# Altium footprint library PcbLib1.PcbLib: 218 footprints (part 10 of 14)
Each footprint in its own frame and in the unit in brackets; x right, y up, seen from the top. Pads: shape width x height; smd on the part's side, far side on the other; paste and mask are expansions set on the pad; w line width, h text height; cw(c..) or ccw(c..) is an arc to the next point about the centre after c.
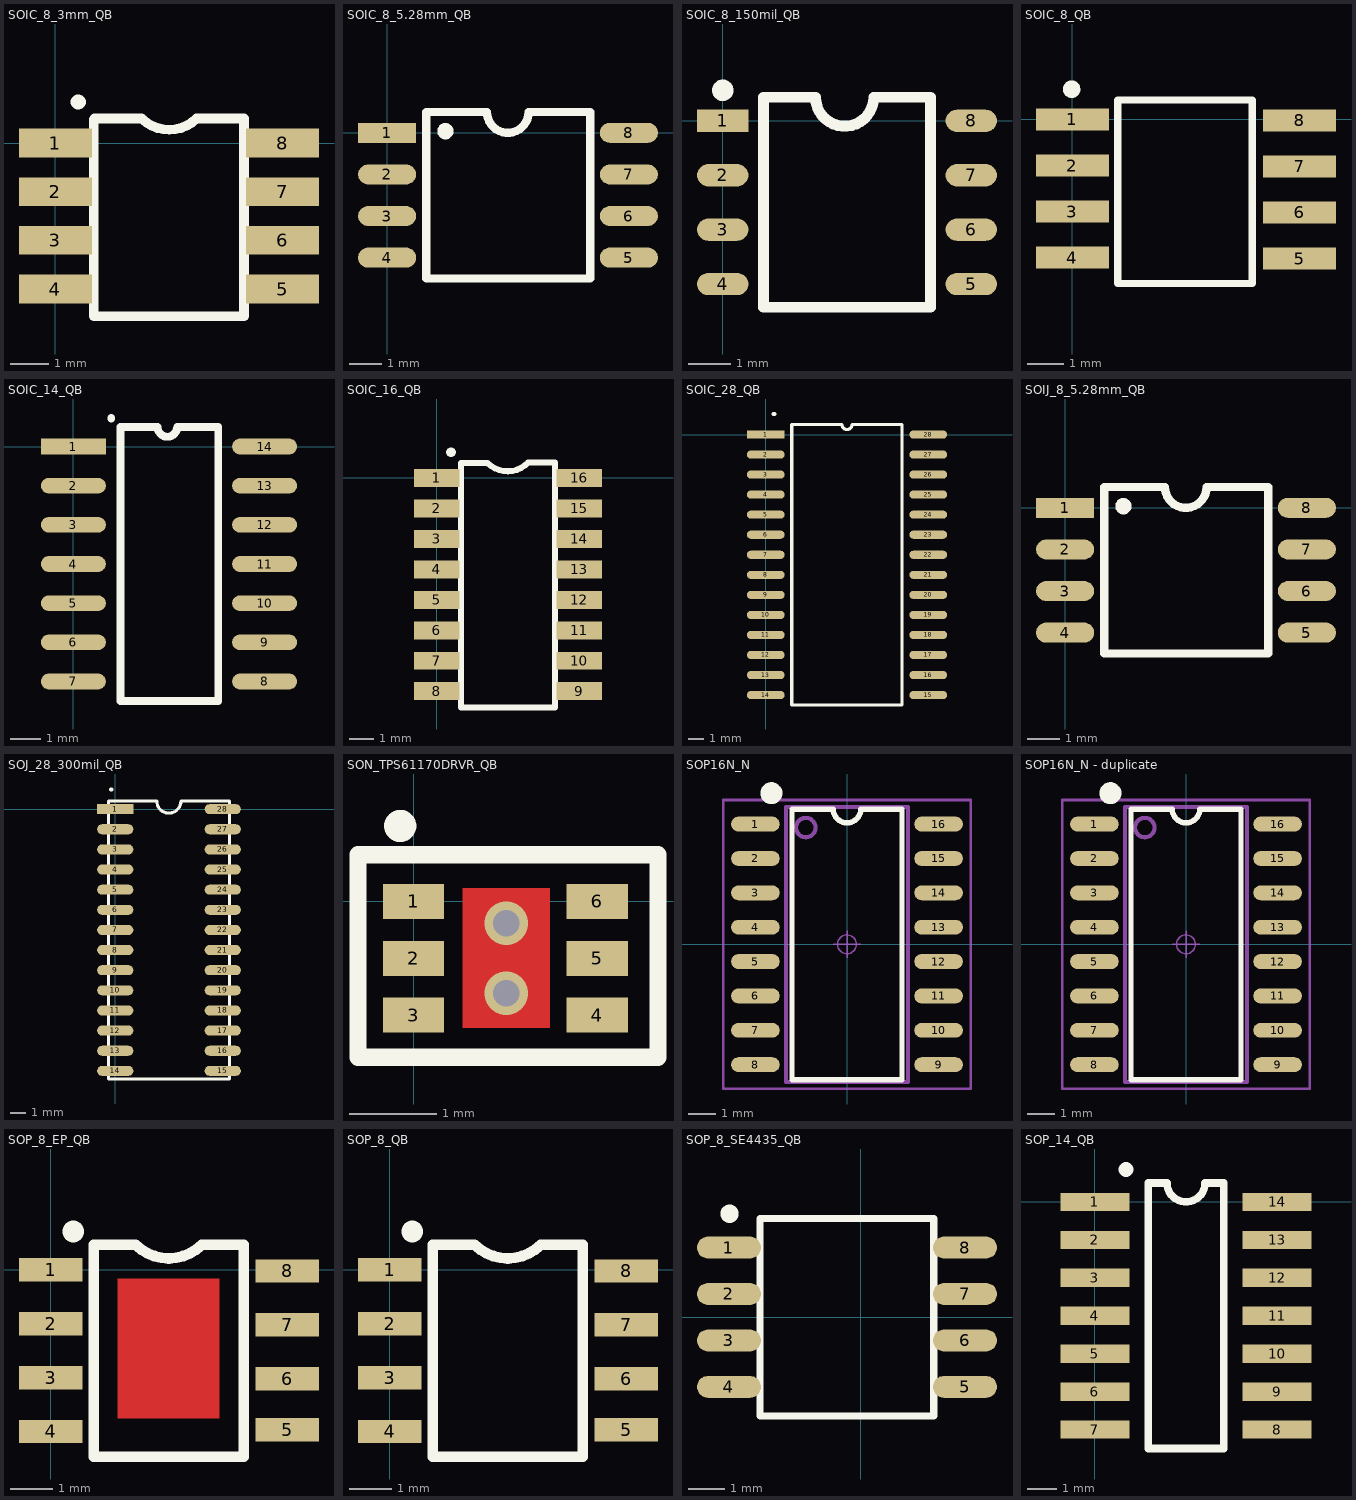
[diagram p9: the footprints below, top view; thin cyan lines are the x and y axes]

## SOIC_8_3mm_QB [mm]
height 3.63
pads (8):
  rect 1.9x0.75 smd: 1(0,0) 2(0,-1.27) 3(0,-2.54) 4(0,-3.81) 5(5.93,-3.81) 6(5.93,-2.54) 7(5.93,-1.27) 8(5.93,0)
Top Overlay:
  lines w0.254: 1,0.62 1,-4.52 4.92,-4.52 4.92,0.64 3.683,0.64 cw(c2.97,1.353) 2.257,0.64 1.02,0.64
  lines w0.4: 0.59,1.07 0.6,1.07
3D body: height 0.25, standoff 0, extent 5.26,-4.13 5.91,-3.53
3D body: height 1.2, standoff 0, extent 5.26,-4.13 5.51,-3.53
3D body: height 1.45, standoff 1.19, extent 5.01,-4.13 5.51,-3.53
3D body: height 0.25, standoff 0, extent 5.26,-2.84 5.91,-2.24
3D body: height 1.2, standoff 0, extent 5.26,-2.84 5.51,-2.24
3D body: height 1.45, standoff 1.19, extent 5.01,-2.84 5.51,-2.24
3D body: height 0.25, standoff 0, extent 5.26,-1.56 5.91,-0.96
3D body: height 1.2, standoff 0, extent 5.26,-1.56 5.51,-0.96
3D body: height 1.45, standoff 1.19, extent 5.01,-1.56 5.51,-0.96
3D body: height 0.25, standoff 0, extent 5.26,-0.28 5.91,0.32
3D body: height 1.2, standoff 0, extent 5.26,-0.28 5.51,0.32
3D body: height 1.45, standoff 1.19, extent 5.01,-0.28 5.51,0.32
3D body: height 3.5, standoff 0.1, extent 1,-4.52 4.92,0.64
3D body: height 1.45, standoff 1.19, extent 0.44,-0.29 0.94,0.31
3D body: height 1.2, standoff 0, extent 0.44,-0.29 0.69,0.31
3D body: height 0.25, standoff 0, extent 0.04,-0.29 0.69,0.31
3D body: height 1.45, standoff 1.19, extent 0.44,-1.56 0.94,-0.96
3D body: height 1.2, standoff 0, extent 0.44,-1.56 0.69,-0.96
3D body: height 0.25, standoff 0, extent 0.04,-1.56 0.69,-0.96
3D body: height 1.45, standoff 1.19, extent 0.44,-2.86 0.94,-2.26
3D body: height 1.2, standoff 0, extent 0.44,-2.86 0.69,-2.26
3D body: height 0.25, standoff 0, extent 0.04,-2.86 0.69,-2.26
3D body: height 1.45, standoff 1.19, extent 0.44,-4.13 0.94,-3.53
3D body: height 1.2, standoff 0, extent 0.44,-4.13 0.69,-3.53
3D body: height 0.25, standoff 0, extent 0.04,-4.13 0.69,-3.53

## SOIC_8_5.28mm_QB [mil]
pads (8):
  rect 70x24 smd: 1(0,0)
  oval 70x24 smd: 2(0,-50) 3(0,-100) 4(0,-150) 5(290.55,-150) 6(290.55,-100) 7(290.55,-50) 8(290.55,0)
Top Overlay:
  circle w9.84: c70.08,2 r4.92
  lines w10: 46.85,-175 46.85,25 120,25 ccw(c145,25) 170,25 244,25 244,-175 46.85,-175
3D body: height 70.87, standoff 0, extent 46.85,-175 244,25
3D body: height 31.5, standoff 0, extent -5,-8 47,9
3D body: height 31.5, standoff 0, extent -5,-58.5 47,-41.5
3D body: height 31.5, standoff 0, extent -5,-108 47,-91
3D body: height 31.5, standoff 0, extent -5,-159 47,-142
3D body: height 31.5, standoff 0, extent 243,-159 295,-142
3D body: height 31.5, standoff 0, extent 243,-108.5 295,-91.5
3D body: height 31.5, standoff 0, extent 243,-59 295,-42
3D body: height 31.5, standoff 0, extent 243,-9 295,8

## SOIC_8_150mil_QB [mm]
pads (8):
  rect 1.2x0.52 smd: 1(0,0)
  oval 1.2x0.52 smd: 2(0,-1.27) 3(0,-2.54) 4(0,-3.81) 5(5.8,-3.81) 6(5.8,-2.54) 7(5.8,-1.27) 8(5.8,0)
Top Overlay:
  circle w0.25: c0.002,0.711 r0.125
  lines w0.254: 0.95,-4.35 4.85,-4.35 4.85,0.55 3.523,0.55 cw(c2.845,0.55) 2.168,0.55 0.95,0.55 0.95,-4.35
3D body: height 1.55, standoff 0, extent 1,-4.3 4.825,0.5
3D body: height 0.8, standoff 0, extent -0.15,-0.2 1,0.2
3D body: height 0.8, standoff 0, extent -0.152,-1.47 0.998,-1.07
3D body: height 0.8, standoff 0, extent -0.143,-2.737 1.007,-2.337
3D body: height 0.8, standoff 0, extent -0.152,-4.01 0.998,-3.61
3D body: height 0.8, standoff 0, extent 4.819,-0.2 5.969,0.2
3D body: height 0.8, standoff 0, extent 4.819,-1.47 5.969,-1.07
3D body: height 0.8, standoff 0, extent 4.819,-2.74 5.969,-2.34
3D body: height 0.8, standoff 0, extent 4.819,-4.01 5.969,-3.61

## SOIC_8_QB [mm]
pads (8):
  rect 2x0.6 smd: 1(0,0) 2(0,-1.262) 3(0,-2.523) 4(0,-3.785) 5(6.223,-3.81) 6(6.223,-2.548) 7(6.223,-1.287) 8(6.223,-0.025)
Top Overlay:
  lines w0.2: 1.245,-4.496 1.245,0.533 4.928,0.533 4.928,-4.496 1.245,-4.496
  lines w0.254: 0.076,0.889 ccw(c-0.021,0.831) 0.092,0.831
3D body: height 1.75, standoff 0.1, extent 1.206,-4.496 4.928,0.533
3D body: height 0.75, standoff 0, extent 0.025,-0.254 1.245,0.254
3D body: height 0.75, standoff 0, extent 0.025,-1.524 1.245,-1.016
3D body: height 0.75, standoff 0, extent 0.025,-2.769 1.245,-2.261
3D body: height 0.75, standoff 0, extent 0.025,-4.039 1.245,-3.531
3D body: height 0.75, standoff 0, extent 4.902,-4.064 6.121,-3.556
3D body: height 0.75, standoff 0, extent 4.902,-2.794 6.121,-2.286
3D body: height 0.75, standoff 0, extent 4.902,-1.549 6.121,-1.041
3D body: height 0.75, standoff 0, extent 4.902,-0.279 6.121,0.229

## SOIC_14_QB [mil]
pads (14):
  rect 83x20 smd: 1(0,0)
  oval 83x20 smd: 2(0,-50) 3(0,-100) 4(0,-150) 5(0,-200) 6(0,-250) 7(0,-300) 8(244.09,-300) 9(244.09,-250) 10(244.09,-200) 11(244.09,-150) 12(244.09,-100) 13(244.09,-50) 14(244.09,0)
Top Overlay:
  lines w10: 48.23,35.43 48.23,36.42 ; 60,-325 185,-325 185,25 132.5,25 cw(c120,25) 107.5,25 60,25 60,-325
3D body: height 68.9, standoff 7.87, extent 50,-320 195,20
3D body: height 49.21, standoff 39.37, extent 25,-60 50,-40
3D body: height 39.37, standoff 0, extent 25,-60 35,-40
3D body: height 9.84, standoff 0, extent -14.99,-60 35,-40
3D body: height 49.21, standoff 39.37, extent 25,-110 50,-90
3D body: height 39.37, standoff 0, extent 25,-110 35,-90
3D body: height 9.84, standoff 0, extent -14.99,-110 35,-90
3D body: height 49.21, standoff 39.37, extent 25,-160 50,-140
3D body: height 39.37, standoff 0, extent 25,-160 35,-140
3D body: height 9.84, standoff 0, extent -14.99,-160 35,-140
3D body: height 49.21, standoff 39.37, extent 25,-210 50,-190
3D body: height 39.37, standoff 0, extent 25,-210 35,-190
3D body: height 9.84, standoff 0, extent -14.99,-210 35,-190
3D body: height 49.21, standoff 39.37, extent 25,-260 50,-240
3D body: height 39.37, standoff 0, extent 25,-260 35,-240
3D body: height 9.84, standoff 0, extent -14.99,-260 35,-240
3D body: height 49.21, standoff 39.37, extent 25,-310 50,-290
3D body: height 39.37, standoff 0, extent 25,-310 35,-290
3D body: height 9.84, standoff 0, extent -14.99,-310 35,-290
3D body: height 49.21, standoff 39.37, extent 195,-310 220,-290
3D body: height 39.37, standoff 0, extent 210,-310 220,-290
3D body: height 9.84, standoff 0, extent 210,-310 259.99,-290
3D body: height 49.21, standoff 39.37, extent 195,-260 220,-240
3D body: height 39.37, standoff 0, extent 210,-260 220,-240
3D body: height 9.84, standoff 0, extent 210,-260 259.99,-240
3D body: height 49.21, standoff 39.37, extent 195,-210 220,-190
3D body: height 39.37, standoff 0, extent 210,-210 220,-190
3D body: height 9.84, standoff 0, extent 210,-210 259.99,-190
3D body: height 49.21, standoff 39.37, extent 195,-160 220,-140
3D body: height 39.37, standoff 0, extent 210,-160 220,-140
3D body: height 9.84, standoff 0, extent 210,-160 259.99,-140
3D body: height 49.21, standoff 39.37, extent 195,-110 220,-90
3D body: height 39.37, standoff 0, extent 210,-110 220,-90
3D body: height 9.84, standoff 0, extent 210,-110 259.99,-90
3D body: height 49.21, standoff 39.37, extent 195,-60 220,-40
3D body: height 39.37, standoff 0, extent 210,-60 220,-40
3D body: height 9.84, standoff 0, extent 210,-60 259.99,-40
3D body: height 49.21, standoff 39.37, extent 195,-10 220,10
3D body: height 39.37, standoff 0, extent 210,-10 220,10
3D body: height 9.84, standoff 0, extent 210,-10 259.99,10
3D body: height 49.21, standoff 39.37, extent 25,-10 50,10
3D body: height 39.37, standoff 0, extent 25,-10 35,10
3D body: height 9.84, standoff 0, extent -14.99,-10 35,10

## SOIC_16_QB [mm]
height 1.75
pads (16):
  rect 1.9x0.75 smd: 1(0,0) 2(0,-1.27) 3(0,-2.54) 4(0,-3.81) 5(0,-5.08) 6(0,-6.35) 7(0,-7.62) 8(0,-8.89) 9(5.93,-8.89) 10(5.93,-7.62) 11(5.93,-6.35) 12(5.93,-5.08) 13(5.93,-3.81) 14(5.93,-2.54) 15(5.93,-1.27) 16(5.93,0)
Top Overlay:
  lines w0.254: 1,-9.571 4.92,-9.571 4.92,0.64 3.804,0.64 cw(c2.95,1.474) 2.116,0.62 1,0.62 1,-9.571
  lines w0.4: 0.59,1.07 0.6,1.07
3D body: height 0.95, standoff 0.74, extent 4.92,-2.83 5.42,-2.23
3D body: height 0.74, standoff 0, extent 5.17,-2.83 5.42,-2.23
3D body: height 0.25, standoff 0, extent 5.17,-2.83 5.82,-2.23
3D body: height 0.95, standoff 0.74, extent 4.92,-1.59 5.42,-0.99
3D body: height 0.74, standoff 0, extent 5.17,-1.59 5.42,-0.99
3D body: height 0.25, standoff 0, extent 5.17,-1.59 5.82,-0.99
3D body: height 0.95, standoff 0.74, extent 4.92,-0.29 5.42,0.31
3D body: height 0.74, standoff 0, extent 5.17,-0.29 5.42,0.31
3D body: height 0.25, standoff 0, extent 5.17,-0.29 5.82,0.31
3D body: height 0.95, standoff 0.74, extent 0.49,-2.82 0.99,-2.22
3D body: height 0.75, standoff 0, extent 0.49,-2.82 0.74,-2.22
3D body: height 0.25, standoff 0, extent 0.09,-2.82 0.74,-2.22
3D body: height 0.95, standoff 0.74, extent 0.49,-1.56 0.99,-0.96
3D body: height 0.75, standoff 0, extent 0.49,-1.56 0.74,-0.96
3D body: height 0.25, standoff 0, extent 0.09,-1.56 0.74,-0.96
3D body: height 0.95, standoff 0.74, extent 0.49,-0.29 0.99,0.31
3D body: height 0.75, standoff 0, extent 0.49,-0.29 0.74,0.31
3D body: height 0.25, standoff 0, extent 0.09,-0.29 0.74,0.31
3D body: height 1.75, standoff 0.1, extent 1,-9.571 4.92,0.64
3D body: height 0.95, standoff 0.74, extent 0.491,-4.091 0.991,-3.491
3D body: height 0.75, standoff 0, extent 0.491,-4.091 0.741,-3.491
3D body: height 0.25, standoff 0, extent 0.091,-4.091 0.741,-3.491
3D body: height 0.25, standoff 0, extent 5.17,-5.4 5.82,-4.8
3D body: height 0.74, standoff 0, extent 5.17,-5.4 5.42,-4.8
3D body: height 0.95, standoff 0.74, extent 4.92,-5.4 5.42,-4.8
3D body: height 0.25, standoff 0, extent 5.17,-6.64 5.82,-6.04
3D body: height 0.74, standoff 0, extent 5.17,-6.64 5.42,-6.04
3D body: height 0.95, standoff 0.74, extent 4.92,-6.64 5.42,-6.04
3D body: height 0.25, standoff 0, extent 5.17,-7.96 5.82,-7.36
3D body: height 0.74, standoff 0, extent 5.17,-7.96 5.42,-7.36
3D body: height 0.95, standoff 0.74, extent 4.92,-7.96 5.42,-7.36
3D body: height 0.25, standoff 0, extent 5.17,-7.91 5.82,-7.31
3D body: height 0.74, standoff 0, extent 5.17,-7.91 5.42,-7.31
3D body: height 0.95, standoff 0.74, extent 4.92,-7.91 5.42,-7.31
3D body: height 0.25, standoff 0, extent 5.17,-9.21 5.82,-8.61
3D body: height 0.74, standoff 0, extent 5.17,-9.21 5.42,-8.61
3D body: height 0.95, standoff 0.74, extent 4.92,-9.21 5.42,-8.61
3D body: height 0.25, standoff 0, extent 5.159,-4.142 5.809,-3.542
3D body: height 0.74, standoff 0, extent 5.159,-4.142 5.409,-3.542
3D body: height 0.95, standoff 0.74, extent 4.909,-4.142 5.409,-3.542
3D body: height 0.25, standoff 0, extent 0.091,-9.171 0.741,-8.571
3D body: height 0.75, standoff 0, extent 0.491,-9.171 0.741,-8.571
3D body: height 0.95, standoff 0.74, extent 0.491,-9.171 0.991,-8.571
3D body: height 0.25, standoff 0, extent 0.09,-5.37 0.74,-4.77
3D body: height 0.75, standoff 0, extent 0.49,-5.37 0.74,-4.77
3D body: height 0.95, standoff 0.74, extent 0.49,-5.37 0.99,-4.77
3D body: height 0.25, standoff 0, extent 0.09,-6.64 0.74,-6.04
3D body: height 0.75, standoff 0, extent 0.49,-6.64 0.74,-6.04
3D body: height 0.95, standoff 0.74, extent 0.49,-6.64 0.99,-6.04
3D body: height 0.25, standoff 0, extent 0.09,-7.9 0.74,-7.3
3D body: height 0.75, standoff 0, extent 0.49,-7.9 0.74,-7.3
3D body: height 0.95, standoff 0.74, extent 0.49,-7.9 0.99,-7.3

## SOIC_28_QB [mm]
pads (28):
  rect 2.4x0.51 smd: 1(0,0)
  oval 2.4x0.51 smd: 2(0,-1.27) 3(0,-2.54) 4(0,-3.81) 5(0,-5.08) 6(0,-6.35) 7(0,-7.62) 8(0,-8.89) 9(0,-10.16) 10(0,-11.43) 11(0,-12.7) 12(0,-13.97) 13(0,-15.24) 14(0,-16.51) 15(10.3,-16.51) 16(10.3,-15.24) 17(10.3,-13.97) 18(10.3,-12.7) 19(10.3,-11.43) 20(10.3,-10.16) 21(10.3,-8.89) 22(10.3,-7.62) 23(10.3,-6.35) 24(10.3,-5.08) 25(10.3,-3.81) 26(10.3,-2.54) 27(10.3,-1.27) 28(10.3,0)
Top Overlay:
  lines w0.2: 1.651,-17.145 8.636,-17.145 8.636,0.635 5.467,0.635 cw(c5.15,0.635) 4.832,0.635 1.651,0.635 1.651,-17.145
  lines w0.254: 0.5,1.3 0.55,1.3
3D body: height 2.65, standoff 0.2, extent 1.404,-17.208 8.897,0.699
3D body: height 0.28, standoff 0, extent -0.254,-0.254 1.016,0.254
3D body: height 2, standoff 0, extent 0.762,-0.254 1.016,0.254
3D body: height 2.28, standoff 2, extent 0.762,-0.254 1.651,0.254
3D body: height 0.28, standoff 0, extent -0.254,-1.524 1.016,-1.016
3D body: height 2, standoff 0, extent 0.762,-1.524 1.016,-1.016
3D body: height 2.28, standoff 2, extent 0.762,-1.524 1.651,-1.016
3D body: height 0.28, standoff 0, extent -0.254,-2.794 1.016,-2.286
3D body: height 2, standoff 0, extent 0.762,-2.794 1.016,-2.286
3D body: height 2.28, standoff 2, extent 0.762,-2.794 1.651,-2.286
3D body: height 0.28, standoff 0, extent -0.254,-4.064 1.016,-3.556
3D body: height 2, standoff 0, extent 0.762,-4.064 1.016,-3.556
3D body: height 2.28, standoff 2, extent 0.762,-4.064 1.651,-3.556
3D body: height 0.28, standoff 0, extent -0.254,-5.334 1.016,-4.826
3D body: height 2, standoff 0, extent 0.762,-5.334 1.016,-4.826
3D body: height 2.28, standoff 2, extent 0.762,-5.334 1.651,-4.826
3D body: height 0.28, standoff 0, extent -0.254,-6.604 1.016,-6.096
3D body: height 2, standoff 0, extent 0.762,-6.604 1.016,-6.096
3D body: height 2.28, standoff 2, extent 0.762,-6.604 1.651,-6.096
3D body: height 0.28, standoff 0, extent -0.254,-7.874 1.016,-7.366
3D body: height 2, standoff 0, extent 0.762,-7.874 1.016,-7.366
3D body: height 2.28, standoff 2, extent 0.762,-7.874 1.651,-7.366
3D body: height 0.28, standoff 0, extent -0.254,-9.144 1.016,-8.636
3D body: height 2, standoff 0, extent 0.762,-9.144 1.016,-8.636
3D body: height 2.28, standoff 2, extent 0.762,-9.144 1.651,-8.636
3D body: height 0.28, standoff 0, extent -0.254,-10.414 1.016,-9.906
3D body: height 2, standoff 0, extent 0.762,-10.414 1.016,-9.906
3D body: height 2.28, standoff 2, extent 0.762,-10.414 1.651,-9.906
3D body: height 0.28, standoff 0, extent -0.254,-11.684 1.016,-11.176
3D body: height 2, standoff 0, extent 0.762,-11.684 1.016,-11.176
3D body: height 2.28, standoff 2, extent 0.762,-11.684 1.651,-11.176
3D body: height 0.28, standoff 0, extent -0.254,-12.954 1.016,-12.446
3D body: height 2, standoff 0, extent 0.762,-12.954 1.016,-12.446
3D body: height 2.28, standoff 2, extent 0.762,-12.954 1.651,-12.446
3D body: height 0.28, standoff 0, extent -0.254,-14.224 1.016,-13.716
3D body: height 2, standoff 0, extent 0.762,-14.224 1.016,-13.716
3D body: height 2.28, standoff 2, extent 0.762,-14.224 1.651,-13.716
3D body: height 0.28, standoff 0, extent -0.254,-15.494 1.016,-14.986
3D body: height 2, standoff 0, extent 0.762,-15.494 1.016,-14.986
3D body: height 2.28, standoff 2, extent 0.762,-15.494 1.651,-14.986
3D body: height 0.28, standoff 0, extent -0.254,-16.764 1.016,-16.256
3D body: height 2, standoff 0, extent 0.762,-16.764 1.016,-16.256
3D body: height 2.28, standoff 2, extent 0.762,-16.764 1.651,-16.256
3D body: height 0.28, standoff 0, extent 9.271,-16.764 10.541,-16.256
3D body: height 2, standoff 0, extent 9.271,-16.764 9.525,-16.256
3D body: height 2.28, standoff 2, extent 8.636,-16.764 9.525,-16.256
3D body: height 0.28, standoff 0, extent 9.271,-15.494 10.541,-14.986
3D body: height 2, standoff 0, extent 9.271,-15.494 9.525,-14.986
3D body: height 2.28, standoff 2, extent 8.636,-15.494 9.525,-14.986
3D body: height 0.28, standoff 0, extent 9.271,-14.224 10.541,-13.716
3D body: height 2, standoff 0, extent 9.271,-14.224 9.525,-13.716
3D body: height 2.28, standoff 2, extent 8.636,-14.224 9.525,-13.716
3D body: height 0.28, standoff 0, extent 9.271,-0.254 10.541,0.254
3D body: height 2, standoff 0, extent 9.271,-0.254 9.525,0.254
3D body: height 2.28, standoff 2, extent 8.636,-0.254 9.525,0.254
3D body: height 0.28, standoff 0, extent 9.271,-1.524 10.541,-1.016
3D body: height 2, standoff 0, extent 9.271,-1.524 9.525,-1.016
3D body: height 2.28, standoff 2, extent 8.636,-1.524 9.525,-1.016
3D body: height 0.28, standoff 0, extent 9.271,-4.064 10.541,-3.556
3D body: height 2, standoff 0, extent 9.271,-4.064 9.525,-3.556
3D body: height 2.28, standoff 2, extent 8.636,-4.064 9.525,-3.556
3D body: height 0.28, standoff 0, extent 9.271,-5.334 10.541,-4.826
3D body: height 2, standoff 0, extent 9.271,-5.334 9.525,-4.826
3D body: height 2.28, standoff 2, extent 8.636,-5.334 9.525,-4.826
3D body: height 0.28, standoff 0, extent 9.271,-6.604 10.541,-6.096
3D body: height 2, standoff 0, extent 9.271,-6.604 9.525,-6.096
3D body: height 2.28, standoff 2, extent 8.636,-6.604 9.525,-6.096
3D body: height 0.28, standoff 0, extent 9.271,-7.874 10.541,-7.366
3D body: height 2, standoff 0, extent 9.271,-7.874 9.525,-7.366
3D body: height 2.28, standoff 2, extent 8.636,-7.874 9.525,-7.366
3D body: height 0.28, standoff 0, extent 9.144,-10.414 10.414,-9.906
3D body: height 2, standoff 0, extent 9.144,-10.414 9.398,-9.906
3D body: height 2.28, standoff 2, extent 8.509,-10.414 9.398,-9.906
3D body: height 0.28, standoff 0, extent 9.271,-11.684 10.541,-11.176
3D body: height 2, standoff 0, extent 9.271,-11.684 9.525,-11.176
3D body: height 2.28, standoff 2, extent 8.636,-11.684 9.525,-11.176
3D body: height 0.28, standoff 0, extent 9.271,-12.954 10.541,-12.446
3D body: height 2, standoff 0, extent 9.271,-12.954 9.525,-12.446
3D body: height 2.28, standoff 2, extent 8.636,-12.954 9.525,-12.446
3D body: height 2.28, standoff 2, extent 8.636,-9.144 9.525,-8.636
3D body: height 2, standoff 0, extent 9.271,-9.144 9.525,-8.636
3D body: height 0.28, standoff 0, extent 9.271,-9.144 10.541,-8.636
3D body: height 2.28, standoff 2, extent 8.636,-2.794 9.525,-2.286
3D body: height 2, standoff 0, extent 9.271,-2.794 9.525,-2.286
3D body: height 0.28, standoff 0, extent 9.271,-2.794 10.541,-2.286

## SOIJ_8_5.28mm_QB [mil]
pads (8):
  rect 70x24 smd: 1(0,0)
  oval 70x24 smd: 2(0,-50) 3(0,-100) 4(0,-150) 5(290.55,-150) 6(290.55,-100) 7(290.55,-50) 8(290.55,0)
Top Overlay:
  circle w9.84: c70.08,2 r4.92
  lines w10: 46.85,-175 46.85,25 120,25 ccw(c145,25) 170,25 244,25 244,-175 46.85,-175
3D body: height 70.87, standoff 0, extent 46.85,-175 244,25
3D body: height 31.5, standoff 0, extent -5,-8 47,9
3D body: height 31.5, standoff 0, extent -5,-58.5 47,-41.5
3D body: height 31.5, standoff 0, extent -5,-108 47,-91
3D body: height 31.5, standoff 0, extent -5,-159 47,-142
3D body: height 31.5, standoff 0, extent 243,-159 295,-142
3D body: height 31.5, standoff 0, extent 243,-108.5 295,-91.5
3D body: height 31.5, standoff 0, extent 243,-59 295,-42
3D body: height 31.5, standoff 0, extent 243,-9 295,8

## SOJ_28_300mil_QB [mil]
pads (28):
  rect 90x25 smd: 1(0,0)
  oval 90x25 smd: 2(0,-50) 3(0,-100) 4(0,-150) 5(0,-200) 6(0,-250) 7(0,-300) 8(0,-350) 9(0,-400) 10(0,-450) 11(0,-500) 12(0,-550) 13(0,-600) 14(0,-650) 15(267,-650) 16(267,-600) 17(267,-550) 18(267,-500) 19(267,-450) 20(267,-400) 21(267,-350) 22(267,-300) 23(267,-250) 24(267,-200) 25(267,-150) 26(267,-100) 27(267,-50) 28(267,0)
Top Overlay:
  lines w7.87: 103,19.96 -16.5,19.96 -16.5,-669.96 283.5,-669.96 283.5,19.96 163,19.96 ; 103,20 ccw(c133,20) 163,20
  lines w10: -10.83,48.23 -9.84,48.23
3D body: height 35, standoff 0, extent 225,-10 305,10
3D body: height 35, standoff 0, extent 225,-60 305,-40
3D body: height 35, standoff 0, extent 225,-110 305,-90
3D body: height 35, standoff 0, extent 225,-160 305,-140
3D body: height 35, standoff 0, extent 225,-210 305,-190
3D body: height 35, standoff 0, extent 225,-260 305,-240
3D body: height 35, standoff 0, extent 225,-310 305,-290
3D body: height 35, standoff 0, extent 225,-360 305,-340
3D body: height 35, standoff 0, extent 225,-410 305,-390
3D body: height 35, standoff 0, extent 225,-460 305,-440
3D body: height 35, standoff 0, extent 225,-510 305,-490
3D body: height 35, standoff 0, extent 225,-560 305,-540
3D body: height 35, standoff 0, extent 225,-610 305,-590
3D body: height 35, standoff 0, extent 225,-659 305,-639
3D body: height 35, standoff 0, extent -41,-661 39,-641
3D body: height 35, standoff 0, extent -40,-610 40,-590
3D body: height 35, standoff 0, extent -40,-560 40,-540
3D body: height 35, standoff 0, extent -40,-510 40,-490
3D body: height 35, standoff 0, extent -40,-460 40,-440
3D body: height 35, standoff 0, extent -40,-410 40,-390
3D body: height 35, standoff 0, extent -40,-360 40,-340
3D body: height 35, standoff 0, extent -40,-310 40,-290
3D body: height 35, standoff 0, extent -40,-261 40,-241
3D body: height 35, standoff 0, extent -40,-210 40,-190
3D body: height 35, standoff 0, extent -40,-160 40,-140
3D body: height 35, standoff 0, extent -40,-110 40,-90
3D body: height 35, standoff 0, extent -40,-60 40,-40
3D body: height 85, standoff 35, extent -40,-10 -16,10
3D body: height 35, standoff 0, extent -40,-10 40,10
3D body: height 140, standoff 35, extent -16.5,-669.96 283.5,19.96
3D body: height 85, standoff 35, extent -40,-60 -16,-40
3D body: height 85, standoff 35, extent -40,-110 -16,-90
3D body: height 85, standoff 35, extent -40,-160 -16,-140
3D body: height 85, standoff 35, extent -40,-210 -16,-190
3D body: height 85, standoff 35, extent -40,-260 -16,-240
3D body: height 85, standoff 35, extent -40,-310 -16,-290
3D body: height 85, standoff 35, extent -40,-360 -16,-340
3D body: height 85, standoff 35, extent -40,-410 -16,-390
3D body: height 85, standoff 35, extent -40,-460 -16,-440
3D body: height 85, standoff 35, extent -40,-510 -16,-490
3D body: height 85, standoff 35, extent -40,-560 -16,-540
3D body: height 85, standoff 35, extent -40,-610 -16,-590
3D body: height 85, standoff 35, extent -40,-660 -16,-640
3D body: height 85, standoff 35, extent 281,-660 305,-640
3D body: height 85, standoff 35, extent 281,-610 305,-590
3D body: height 85, standoff 35, extent 281,-560 305,-540
3D body: height 85, standoff 35, extent 281,-510 305,-490
3D body: height 85, standoff 35, extent 281,-460 305,-440
3D body: height 85, standoff 35, extent 281,-410 305,-390
3D body: height 85, standoff 35, extent 281,-360 305,-340
3D body: height 85, standoff 35, extent 281,-310 305,-290
3D body: height 85, standoff 35, extent 281,-260 305,-240
3D body: height 85, standoff 35, extent 281,-210 305,-190
3D body: height 85, standoff 35, extent 281,-160 305,-140
3D body: height 85, standoff 35, extent 281,-110 305,-90
3D body: height 85, standoff 35, extent 281,-60 305,-40
3D body: height 85, standoff 35, extent 281,-10 305,10

## SON_TPS61170DRVR_QB [mm] "TPS61170DRVR"
pads (6):
  rect 0.7x0.4 smd: 1(0,0) 2(0,-0.65) 3(0,-1.3) 4(2.1,-1.3) 5(2.1,-0.65) 6(2.1,0)
via 1.059,-1.048 diameter 0.5 hole 0.3
via 1.059,-0.248 diameter 0.5 hole 0.3
Top Layer:
  rectangle: 0.559,-1.448 1.559,0.152
Top Overlay:
  circle w0.254: c-0.152,0.864 r0.057
  lines w0.2: -0.635,-1.778 -0.635,0.533 2.794,0.533 2.794,-1.778 -0.635,-1.778
3D body: height 0.8, standoff 0.05, extent -0.038,-1.575 2.146,0.279
3D body: height 0.2, standoff 0, extent 1.765,-0.152 2.146,0.153
3D body: height 0.2, standoff 0, extent 1.765,-0.813 2.146,-0.508
3D body: height 0.2, standoff 0, extent 1.765,-1.448 2.146,-1.143
3D body: height 0.2, standoff 0, extent -0.038,-1.448 0.343,-1.143
3D body: height 0.2, standoff 0, extent -0.038,-0.813 0.343,-0.508
3D body: height 0.2, standoff 0, extent -0.038,-0.152 0.343,0.152

## SOP16N_N [mm] "10.3*7*1.8mm（长宽高）"
height 1.75
pads (16):
  oval 1.8x0.55 smd: 1(-3.385,4.445) 2(-3.385,3.175) 3(-3.385,1.905) 4(-3.385,0.635) 5(-3.385,-0.635) 6(-3.385,-1.905) 7(-3.385,-3.175) 8(-3.385,-4.445) 9(3.385,-4.445) 10(3.385,-3.175) 11(3.385,-1.905) 12(3.385,-0.635) 13(3.385,0.635) 14(3.385,1.905) 15(3.385,3.175) 16(3.385,4.445)
Top Overlay:
  circle w0.5: c-2.794,5.588 r0.155
  lines w0.2: -2.032,5 -2.032,-5 2.032,-5 2.032,5
  lines w0.203: -2.032,5 -0.508,5 ccw(c0,5) 0,4.492 ccw(c0,5) 0.508,5 2.032,5
Mechanical 13:
  circle w0.15: c-1.524,4.318 r0.359
  lines w0.15: -2.25,-5.08 -2.25,5.08 2.25,5.08 2.25,-5.08 -2.25,-5.08
Mechanical 15:
  circle w0.05: c0,0 r0.35
  lines w0.05: -0.5,0 0.5,0 ; 0,-0.5 0,0.5
  lines w0.1: -4.572,-5.334 -4.572,5.334 4.572,5.334 4.572,-5.334 -4.572,-5.334
3D body "SOP16N.STEP": height 1.9, standoff 0, extent -3.503,-5.25 3.503,5.25

## SOP16N_N - duplicate [mm] "10.3*7*1.8mm（长宽高）"
height 1.75
pads (16):
  oval 1.8x0.55 smd: 1(-3.385,4.445) 2(-3.385,3.175) 3(-3.385,1.905) 4(-3.385,0.635) 5(-3.385,-0.635) 6(-3.385,-1.905) 7(-3.385,-3.175) 8(-3.385,-4.445) 9(3.385,-4.445) 10(3.385,-3.175) 11(3.385,-1.905) 12(3.385,-0.635) 13(3.385,0.635) 14(3.385,1.905) 15(3.385,3.175) 16(3.385,4.445)
Top Overlay:
  circle w0.5: c-2.794,5.588 r0.155
  lines w0.2: -2.032,5 -2.032,-5 2.032,-5 2.032,5
  lines w0.203: -2.032,5 -0.508,5 ccw(c0,5) 0,4.492 ccw(c0,5) 0.508,5 2.032,5
Mechanical 13:
  circle w0.15: c-1.524,4.318 r0.359
  lines w0.15: -2.25,-5.08 -2.25,5.08 2.25,5.08 2.25,-5.08 -2.25,-5.08
Mechanical 15:
  circle w0.05: c0,0 r0.35
  lines w0.05: -0.5,0 0.5,0 ; 0,-0.5 0,0.5
  lines w0.1: -4.572,-5.334 -4.572,5.334 4.572,5.334 4.572,-5.334 -4.572,-5.334
3D body "SOP16N.STEP": height 1.9, standoff 0, extent -3.503,-5.25 3.503,5.25

## SOP_8_EP_QB [mm]
height 1.65
pads (8):
  rect 1.5x0.55 smd: 1(0,0) 2(0,-1.27) 3(0,-2.54) 4(0,-3.81) 5(5.575,-3.77) 6(5.575,-2.57) 7(5.575,-1.295) 8(5.575,-0.025)
Top Layer:
  rectangle: 1.575,-3.5 3.975,-0.2
Top Overlay:
  lines w0.254: 2,0.595 1.012,0.595 1.012,-4.405 4.55,-4.405 4.55,0.595 3.562,0.595 ; 2,0.595 ccw(c2.781,1.376) 3.562,0.595
  lines w0.5: 0.53,0.9 0.53,0.91
3D body: height 1.65, standoff 0.15, extent 1.012,-4.405 4.55,0.595
3D body: height 0.95, standoff 0.73, extent 0.463,-0.182 1.013,0.218
3D body: height 0.75, standoff 0, extent 0.464,-0.182 0.713,0.218
3D body: height 0.2, standoff 0, extent 0.164,-0.182 0.713,0.218
3D body: height 0.95, standoff 0.73, extent 0.463,-1.45 1.013,-1.05
3D body: height 0.75, standoff 0, extent 0.464,-1.45 0.713,-1.05
3D body: height 0.2, standoff 0, extent 0.164,-1.45 0.713,-1.05
3D body: height 0.95, standoff 0.73, extent 0.463,-2.724 1.013,-2.324
3D body: height 0.75, standoff 0, extent 0.464,-2.724 0.713,-2.324
3D body: height 0.2, standoff 0, extent 0.164,-2.724 0.713,-2.324
3D body: height 0.95, standoff 0.73, extent 0.463,-3.992 1.013,-3.592
3D body: height 0.75, standoff 0, extent 0.464,-3.992 0.713,-3.592
3D body: height 0.2, standoff 0, extent 0.164,-3.992 0.713,-3.592
3D body: height 0.95, standoff 0.73, extent 4.551,-0.227 5.101,0.173
3D body: height 0.75, standoff 0, extent 4.851,-0.227 5.101,0.173
3D body: height 0.2, standoff 0, extent 4.851,-0.227 5.401,0.173
3D body: height 0.95, standoff 0.73, extent 4.551,-1.51 5.101,-1.11
3D body: height 0.75, standoff 0, extent 4.851,-1.51 5.101,-1.11
3D body: height 0.2, standoff 0, extent 4.851,-1.51 5.401,-1.11
3D body: height 0.95, standoff 0.73, extent 4.551,-2.774 5.101,-2.374
3D body: height 0.75, standoff 0, extent 4.851,-2.774 5.101,-2.374
3D body: height 0.2, standoff 0, extent 4.851,-2.774 5.401,-2.374
3D body: height 0.95, standoff 0.73, extent 4.551,-3.976 5.101,-3.576
3D body: height 0.75, standoff 0, extent 4.851,-3.976 5.101,-3.576
3D body: height 0.2, standoff 0, extent 4.851,-3.976 5.401,-3.576

## SOP_8_QB [mm]
height 1.65
pads (8):
  rect 1.5x0.55 smd: 1(0,0) 2(0,-1.27) 3(0,-2.54) 4(0,-3.81) 5(5.575,-3.77) 6(5.575,-2.57) 7(5.575,-1.295) 8(5.575,-0.025)
Top Overlay:
  lines w0.254: 2,0.595 1.012,0.595 1.012,-4.405 4.55,-4.405 4.55,0.595 3.562,0.595 ; 2,0.595 ccw(c2.781,1.376) 3.562,0.595
  lines w0.5: 0.53,0.9 0.53,0.91
3D body: height 1.65, standoff 0.15, extent 1.012,-4.405 4.55,0.595
3D body: height 0.95, standoff 0.73, extent 0.463,-0.182 1.013,0.218
3D body: height 0.75, standoff 0, extent 0.464,-0.182 0.713,0.218
3D body: height 0.2, standoff 0, extent 0.164,-0.182 0.713,0.218
3D body: height 0.95, standoff 0.73, extent 0.463,-1.45 1.013,-1.05
3D body: height 0.75, standoff 0, extent 0.464,-1.45 0.713,-1.05
3D body: height 0.2, standoff 0, extent 0.164,-1.45 0.713,-1.05
3D body: height 0.95, standoff 0.73, extent 0.463,-2.724 1.013,-2.324
3D body: height 0.75, standoff 0, extent 0.464,-2.724 0.713,-2.324
3D body: height 0.2, standoff 0, extent 0.164,-2.724 0.713,-2.324
3D body: height 0.95, standoff 0.73, extent 0.463,-3.992 1.013,-3.592
3D body: height 0.75, standoff 0, extent 0.464,-3.992 0.713,-3.592
3D body: height 0.2, standoff 0, extent 0.164,-3.992 0.713,-3.592
3D body: height 0.95, standoff 0.73, extent 4.551,-0.227 5.101,0.173
3D body: height 0.75, standoff 0, extent 4.851,-0.227 5.101,0.173
3D body: height 0.2, standoff 0, extent 4.851,-0.227 5.401,0.173
3D body: height 0.95, standoff 0.73, extent 4.551,-1.51 5.101,-1.11
3D body: height 0.75, standoff 0, extent 4.851,-1.51 5.101,-1.11
3D body: height 0.2, standoff 0, extent 4.851,-1.51 5.401,-1.11
3D body: height 0.95, standoff 0.73, extent 4.551,-2.774 5.101,-2.374
3D body: height 0.75, standoff 0, extent 4.851,-2.774 5.101,-2.374
3D body: height 0.2, standoff 0, extent 4.851,-2.774 5.401,-2.374
3D body: height 0.95, standoff 0.73, extent 4.551,-3.976 5.101,-3.576
3D body: height 0.75, standoff 0, extent 4.851,-3.976 5.101,-3.576
3D body: height 0.2, standoff 0, extent 4.851,-3.976 5.401,-3.576

## SOP_8_SE4435_QB [mm]
height 2
pads (8):
  oval 1.75x0.6 smd: 1(-3.6,1.905) 2(-3.6,0.635) 3(-3.6,-0.635) 4(-3.6,-1.905) 5(2.854,-1.905) 6(2.854,-0.635) 7(2.854,0.635) 8(2.854,1.905)
Top Overlay:
  circle w0.25: c-3.585,2.83 r0.125
  lines w0.2: -2.75,-2.7 2,-2.7 2,2.7 -2.75,2.7 -2.75,-2.7
3D body: height 2, standoff 0, extent -2.794,-2.54 2.004,2.54
3D body: height 1, standoff 0, extent -3.81,1.651 -2.794,2.159
3D body: height 1, standoff 0, extent -3.81,0.381 -2.794,0.889
3D body: height 1, standoff 0, extent -3.81,-0.889 -2.794,-0.381
3D body: height 1, standoff 0, extent -3.81,-2.159 -2.794,-1.651
3D body: height 1, standoff 0, extent 2,-2.154 3.016,-1.646
3D body: height 1, standoff 0, extent 2,-0.884 3.016,-0.376
3D body: height 1, standoff 0, extent 2,0.386 3.016,0.894
3D body: height 1, standoff 0, extent 2,1.656 3.016,2.164

## SOP_14_QB [mil]
pads (14):
  rect 90.55x24 smd: 1(0,0) 2(0,-50) 3(0,-100) 4(0,-150) 5(0,-200) 6(0,-250) 7(0,-300) 8(240,-300) 9(240,-250) 10(240,-200) 11(240,-150) 12(240,-100) 13(240,-50) 14(240,0)
Top Overlay:
  lines w10: 70,-324.8 70,25 95,25 ccw(c120,25) 145,25 170,25 170,-324.8 70,-324.8
  lines w19.68: 40.94,42.52 40.94,42.91
3D body: height 37.4, standoff 0, extent 224.91,-309.88 234.95,-289.8
3D body: height 43.31, standoff 37.01, extent 202.32,-309.88 234.95,-289.8
3D body: height 7.87, standoff 0, extent 224.91,-309.88 260.2,-289.8
3D body: height 37.4, standoff 0, extent 225.07,-259.8 235.11,-239.72
3D body: height 43.31, standoff 37.01, extent 202.48,-259.8 235.11,-239.72
3D body: height 7.87, standoff 0, extent 225.07,-259.8 260.35,-239.72
3D body: height 37.4, standoff 0, extent 225.11,-210 235.15,-189.92
3D body: height 43.31, standoff 37.01, extent 202.52,-210 235.15,-189.92
3D body: height 7.87, standoff 0, extent 225.11,-210 260.39,-189.92
3D body: height 37.4, standoff 0, extent 225.11,-159.72 235.15,-139.65
3D body: height 43.31, standoff 37.01, extent 202.52,-159.72 235.15,-139.65
3D body: height 7.87, standoff 0, extent 225.11,-159.72 260.39,-139.65
3D body: height 37.4, standoff 0, extent 224.99,-109.69 235.03,-89.61
3D body: height 43.31, standoff 37.01, extent 202.4,-109.69 235.03,-89.61
3D body: height 7.87, standoff 0, extent 224.99,-109.69 260.28,-89.61
3D body: height 37.4, standoff 0, extent 224.91,-59.69 234.95,-39.61
3D body: height 43.31, standoff 37.01, extent 202.32,-59.69 234.95,-39.61
3D body: height 7.87, standoff 0, extent 224.91,-59.69 260.2,-39.61
3D body: height 37.4, standoff 0, extent 225.03,-9.65 235.07,10.43
3D body: height 43.31, standoff 37.01, extent 202.44,-9.65 235.07,10.43
3D body: height 7.87, standoff 0, extent 225.03,-9.65 260.31,10.43
3D body: height 37.4, standoff 0, extent -0.11,-309.88 9.93,-289.8
3D body: height 43.31, standoff 37.01, extent -0.11,-309.88 32.52,-289.8
3D body: height 7.87, standoff 0, extent -25.35,-309.88 9.93,-289.8
3D body: height 37.4, standoff 0, extent -0.11,-259.8 9.93,-239.72
3D body: height 43.31, standoff 37.01, extent -0.11,-259.8 32.52,-239.72
3D body: height 7.87, standoff 0, extent -25.35,-259.8 9.93,-239.72
3D body: height 37.4, standoff 0, extent -0.19,-209.53 9.85,-189.45
3D body: height 43.31, standoff 37.01, extent -0.19,-209.53 32.44,-189.45
3D body: height 7.87, standoff 0, extent -25.43,-209.53 9.85,-189.45
3D body: height 37.4, standoff 0, extent -0.15,-159.76 9.89,-139.68
3D body: height 43.31, standoff 37.01, extent -0.15,-159.76 32.48,-139.68
3D body: height 7.87, standoff 0, extent -25.39,-159.76 9.89,-139.68
3D body: height 37.4, standoff 0, extent -0.11,-109.76 9.93,-89.68
3D body: height 43.31, standoff 37.01, extent -0.11,-109.76 32.52,-89.68
3D body: height 7.87, standoff 0, extent -25.35,-109.76 9.93,-89.68
3D body: height 37.4, standoff 0, extent -0.11,-59.37 9.93,-39.29
3D body: height 43.31, standoff 37.01, extent -0.11,-59.37 32.52,-39.29
3D body: height 7.87, standoff 0, extent -25.35,-59.37 9.93,-39.29
3D body: height 37.4, standoff 0, extent -0.23,-9.84 9.81,10.24
3D body: height 43.31, standoff 37.01, extent -0.23,-9.84 32.4,10.24
3D body: height 7.87, standoff 0, extent -25.47,-9.84 9.81,10.24
3D body: height 68.9, standoff 3.94, extent 32.48,-321.85 202.48,22.36